# Altium schematic symbol library C0805C224K3RACTU.SchLib: 2 symbols
Pins are listed as number, name and electrical type; pins without a type are passive.

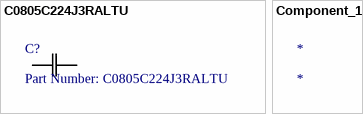
[diagram p0: symbols C0805C224J3RALTU to Component_1]

## C0805C224J3RALTU
designator C?, comment Part Number: C0805C224J3RALTU
No Description Available; Vendor: Kemet; Built_By: EMA_UL_Team; Type: DEV; Manufacturer_Part_Number: C0805C224J3RALTU; Copyright: Copyright (C) 2018 Accelerated Designs. All rights reserved; RefDes: RefDes; Value: Value
footprint C0805C
pins: 1, 2

## Component_1
designator *